# EAGLE library part STM8_DEV (library STM8-blue)
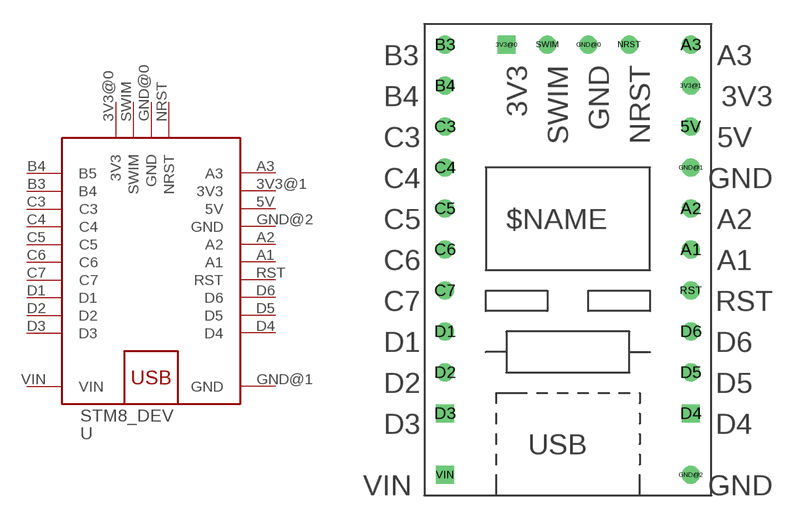
[diagram p0: symbol with the pads of ALL_PIN; footprint ALL_PIN]

Designator prefix -

## STM8_DEV  [ALL_PIN]
3V3@0  3V3
3V3@1  3V3  pwr
5V  5V  pwr
A1  A1
A2  A2
A3  A3  pwr
B3  B4
B4  B5
C3  C3
C4  C4
C5  C5
C6  C6
C7  C7
D1  D1
D2  D2
D3  D3
D4  D4
D5  D5
D6  D6
GND@0  GND
GND@1  GND  pwr
GND@2  GND  pwr
NRST  NRST
RST  RST
SWIM  SWIM
VIN  VIN  pwr

## Footprint ALL_PIN (pad centres in mm)
drill 0.6 square: 3V3@0 -3.81,12.7; D3 -7.62,-10.16; D4 7.62,-10.16; VIN -7.62,-13.97
drill 0.6: 3V3@1 7.62,10.16; 5V 7.62,7.62; A1 7.62,0; A2 7.62,2.54; A3 7.62,12.7; B3 -7.62,12.7; B4 -7.62,10.16; C3 -7.62,7.62; C4 -7.62,5.08; C5 -7.62,2.54; C6 -7.62,0; C7 -7.62,-2.54; D1 -7.62,-5.08; D2 -7.62,-7.62; D5 7.62,-7.62; D6 7.62,-5.08; GND@0 1.27,12.7; GND@1 7.62,5.08; GND@2 7.62,-13.97; NRST 3.81,12.7; RST 7.62,-2.54; SWIM -1.27,12.7